# Altium footprint library QFN-4.PcbLib: 1 footprints
Each footprint in its own frame and in the unit in brackets; x right, y up, seen from the top. Pads: shape width x height; smd on the part's side, far side on the other; paste and mask are expansions set on the pad; w line width, h text height; cw(c..) or ccw(c..) is an arc to the next point about the centre after c.
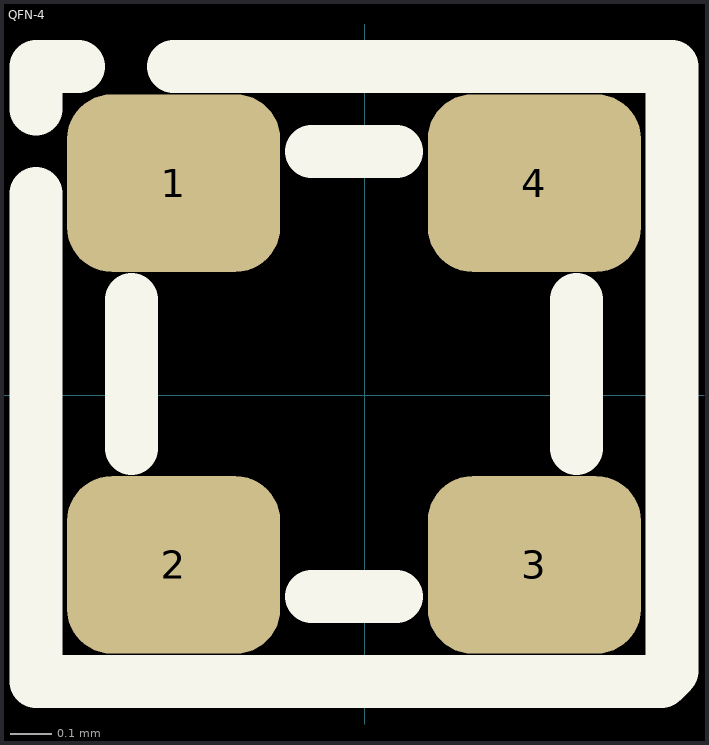
[diagram p0: the footprint, top view; thin cyan lines are the x and y axes]

## QFN-4 [mil]
pads (4):
  rrect50% 20.08x16.73 smd: 1(-18,20) 2(-18,-16) 3(16,-16) 4(16,20)
Top Overlay:
  lines w5: -31,19 -31,-27 -30,-27 -24,-27 28,-27 29,-26 29,28 29,29 29,30 29,31 -18,31 ; -31,27 -31,31 -27,31 ; -22,-5 -22,9 ; -5,-19 3,-19 ; -5,23 3,23 ; 20,-5 20,9
3D body: height 10, standoff 0, extent -24.62,-21.62 22.62,25.62